# Altium schematic symbol library PCIEx1toMXM3.0.SchLib: 21 symbols
Pins are listed as number, name and electrical type; pins without a type are passive.

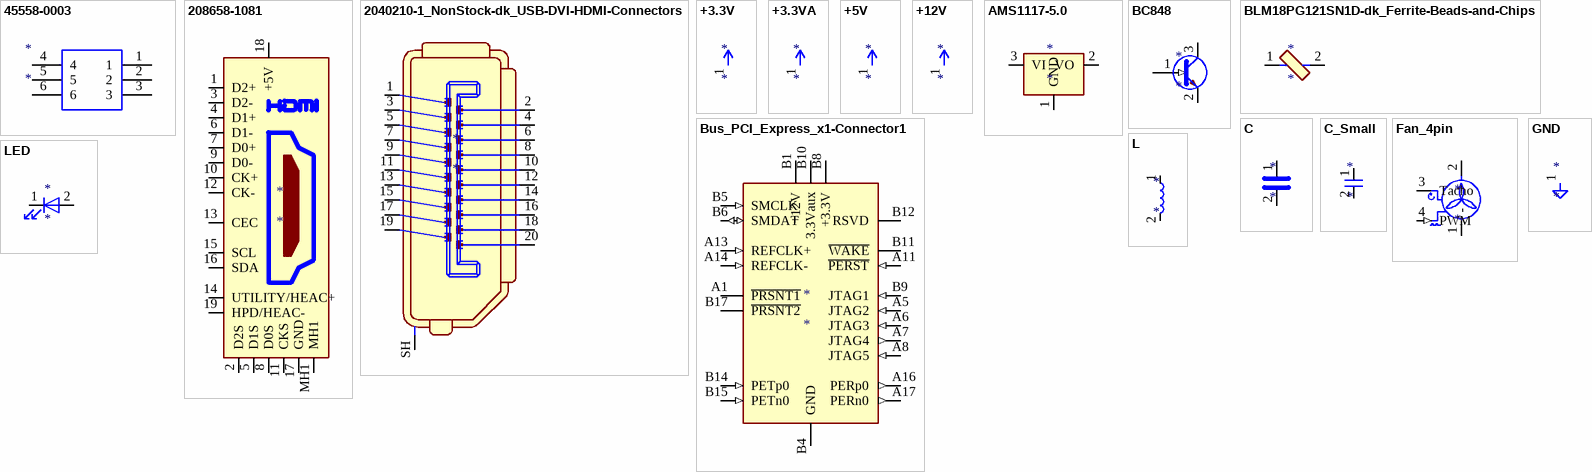
[diagram p0: symbols 45558-0003 to LED]

## 45558-0003
designator *
pins: 1, 2, 3, 4, 5, 6

## 208658-1081
designator *
pins: 1 D2+, 2 D2S (power), 3 D2-, 4 D1+, 5 D1S (power), 6 D1-, 7 D0+, 8 D0S (power), 9 D0-, 10 CK+, 11 CKS (power), 12 CK-, 13 CEC (io), 14 UTILITY/HEAC+, 15 SCL, 16 SDA (io), 17 GND (power), 18 +5V (power), 19 HPD/HEAC-, MH1, MH2 hidden, MH3 hidden, MH4 hidden

## 2040210-1_NonStock-dk_USB-DVI-HDMI-Connectors
designator *
pins: 1, 2, 3, 4, 5, 6, 7, 8, 9, 10, 11, 12, 13, 14, 15, 16, 17, 18, 19, 20, SH

## +3.3V
designator *
pins: 1 +3V3 (power)

## +3.3VA
designator *
pins: 1 +3.3VA (power)

## +5V
designator *
pins: 1 +5V (power)

## +12V
designator *
pins: 1 +12V (power)

## AMS1117-5.0
designator *
pins: 1 GND (power), 2 VO (power), 3 VI (power)

## BC848
designator *
pins: 1 B (in), 2 E, 3 C

## BLM18PG121SN1D-dk_Ferrite-Beads-and-Chips
designator *
pins: 1, 2

## Bus_PCI_Express_x1-Connector1
designator *
pins: A1 ~{PRSNT1}, A2 +12V hidden, A3 +12V hidden, A4 GND hidden, A5 JTAG2 (in), A6 JTAG3 (in), A7 JTAG4 (out), A8 JTAG5 (in), A9 +3.3V hidden, A10 +3.3V hidden, A11 ~{PERST} (in), A12 GND hidden, A13 REFCLK+ (in), A14 REFCLK- (in), A15 GND hidden, A16 PERp0 (out), A17 PERn0 (out), A18 GND hidden, B1 +12V (power), B2 +12V hidden, B3 +12V hidden, B4 GND (power), B5 SMCLK (in), B6 SMDAT (io), B7 GND hidden, B8 +3.3V (power), B9 JTAG1 (in), B10 3.3Vaux (power), B11 ~{WAKE} (oc), B12 RSVD, B13 GND hidden, B14 PETp0 (in), B15 PETn0 (in), B16 GND hidden, B17 ~{PRSNT2}, B18 GND hidden

## C
designator *
pins: 1, 2

## C_Small
designator *
pins: 1, 2

## Fan_4pin
designator *
pins: 1 -, 2 +, 3 Tacho, 4 PWM (in)

## GND
designator *
pins: 1 GND (power)

## L
designator *
pins: 1, 2

## LED
designator *
pins: 1 K, 2 A

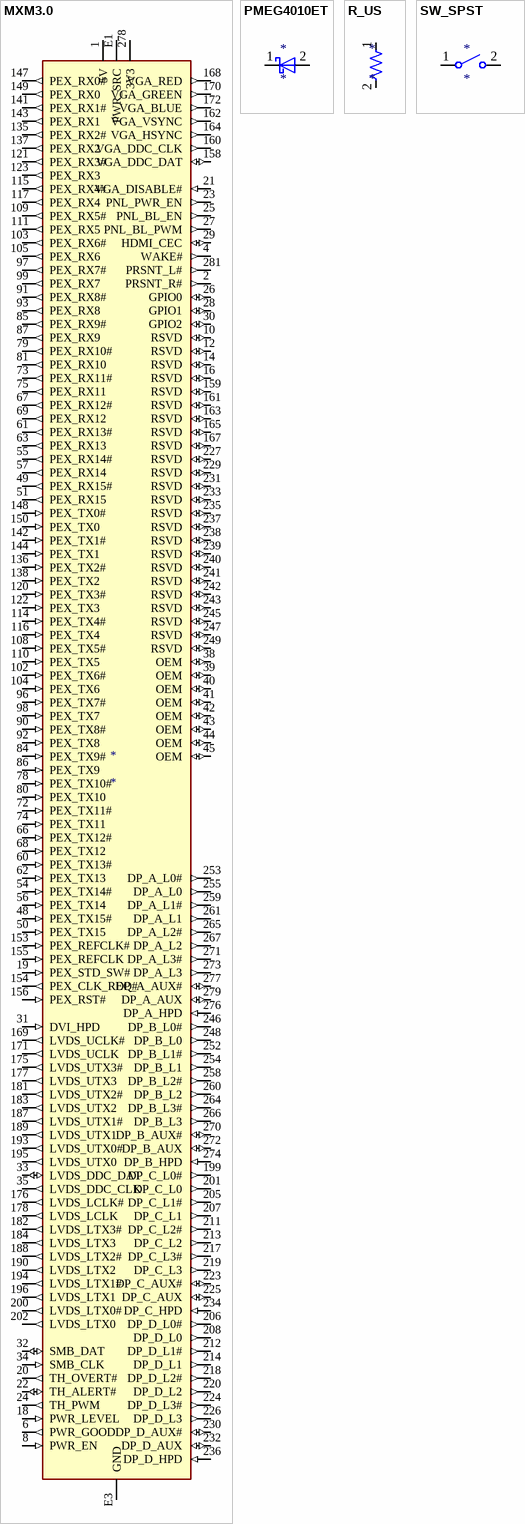
[diagram p1: symbols MXM3.0 to SW_SPST]

## MXM3.0
designator *
pins: 1 5V (power), 2 PRSNT_R# (out), 3 5V hidden, 4 WAKE# (out), 5 5V hidden, 6 PWR_GOOD (out), 7 5V hidden, 8 PWR_EN (in), 9 5V hidden, 10 RSVD (io), 11 GND hidden, 12 RSVD (io), 13 GND hidden, 14 RSVD (io), 15 GND hidden, 16 RSVD (io), 17 GND hidden, 18 PWR_LEVEL (in), 19 PEX_STD_SW# (in), 20 TH_OVERT# (out), 21 VGA_DISABLE# (in), 22 TH_ALERT# (io), 23 PNL_PWR_EN (out), 24 TH_PWM (out), 25 PNL_BL_EN (out), 26 GPIO0 (io), 27 PNL_BL_PWM (out), 28 GPIO1 (io), 29 HDMI_CEC (io), 30 GPIO2 (io), 31 DVI_HPD (in), 32 SMB_DAT (io), 33 LVDS_DDC_DAT (io), 34 SMB_CLK (in), 35 LVDS_DDC_CLK (out), 36 GND hidden, 37 GND hidden, 38 OEM (io), 39 OEM (io), 40 OEM (io), 41 OEM (io), 42 OEM (io), 43 OEM (io), 44 OEM (io), 45 OEM (io), 46 GND hidden, 47 GND hidden, 48 PEX_TX15# (in), 49 PEX_RX15# (out), 50 PEX_TX15 (in), 51 PEX_RX15 (out), 52 GND hidden, 53 GND hidden, 54 PEX_TX14# (in), 55 PEX_RX14# (out), 56 PEX_TX14 (in), 57 PEX_RX14 (out), 58 GND hidden, 59 GND hidden, 60 PEX_TX13# (in), 61 PEX_RX13# (out), 62 PEX_TX13 (in), 63 PEX_RX13 (out), 64 GND hidden, 65 GND hidden, 66 PEX_TX12# (in), 67 PEX_RX12# (out), 68 PEX_TX12 (in), 69 PEX_RX12 (out), 70 GND hidden, 71 GND hidden, 72 PEX_TX11# (in), 73 PEX_RX11# (out), 74 PEX_TX11 (in), 75 PEX_RX11 (out), 76 GND hidden, 77 GND hidden, 78 PEX_TX10# (in), 79 PEX_RX10# (out), 80 PEX_TX10 (in), 81 PEX_RX10 (out), 82 GND hidden, 83 GND hidden, 84 PEX_TX9# (in), 85 PEX_RX9# (out), 86 PEX_TX9 (in), 87 PEX_RX9 (out), 88 GND hidden, 89 GND hidden, 90 PEX_TX8# (in), 91 PEX_RX8# (out), 92 PEX_TX8 (in), 93 PEX_RX8 (out), 94 GND hidden, 95 GND hidden, 96 PEX_TX7# (in), 97 PEX_RX7# (out), 98 PEX_TX7 (in), 99 PEX_RX7 (out), 100 GND hidden, 101 GND hidden, 102 PEX_TX6# (in), 103 PEX_RX6# (out), 104 PEX_TX6 (in), 105 PEX_RX6 (out), 106 GND hidden, 107 GND hidden, 108 PEX_TX5# (in), 109 PEX_RX5# (out), 110 PEX_TX5 (in), 111 PEX_RX5 (out), 112 GND hidden, 113 GND hidden, 114 PEX_TX4# (in), 115 PEX_RX4# (out), 116 PEX_TX4 (in), 117 PEX_RX4 (out), 118 GND hidden, 119 GND hidden, 120 PEX_TX3# (in), 121 PEX_RX3# (out), 122 PEX_TX3 (in), 123 PEX_RX3 (out), 124 GND hidden, 125 GND hidden, 133 GND hidden, 134 GND hidden, 135 PEX_RX2# (out), 136 PEX_TX2# (in), 137 PEX_RX2 (out), 138 PEX_TX2 (in), 139 GND hidden, 140 GND hidden, 141 PEX_RX1# (out), 142 PEX_TX1# (in), 143 PEX_RX1 (out), 144 PEX_TX1 (in), 145 GND hidden, 146 GND hidden, 147 PEX_RX0# (out), 148 PEX_TX0# (in), 149 PEX_RX0 (out), 150 PEX_TX0 (in), 151 GND hidden, 152 GND hidden, 153 PEX_REFCLK# (in), 154 PEX_CLK_REQ# (out), 155 PEX_REFCLK (in), 156 PEX_RST# (in), 157 GND hidden, 158 VGA_DDC_DAT (io), 159 RSVD (io), 160 VGA_DDC_CLK (out), 161 RSVD (io), 162 VGA_VSYNC (out), 163 RSVD (io), 164 VGA_HSYNC (out), 165 RSVD (io), 166 GND hidden, 167 RSVD (io), 168 VGA_RED (out), 169 LVDS_UCLK# (out), 170 VGA_GREEN (out), 171 LVDS_UCLK (out), 172 VGA_BLUE (out), 173 GND hidden, 174 GND hidden, 175 LVDS_UTX3# (out), 176 LVDS_LCLK# (out), 177 LVDS_UTX3 (out), 178 LVDS_LCLK (out), 179 GND hidden, 180 GND hidden, 181 LVDS_UTX2# (out), 182 LVDS_LTX3# (out), 183 LVDS_UTX2 (out), 184 LVDS_LTX3 (out), 185 GND hidden, 186 GND hidden, 187 LVDS_UTX1# (out), 188 LVDS_LTX2# (out), 189 LVDS_UTX1 (out), 190 LVDS_LTX2 (out), 191 GND hidden, 192 GND hidden, 193 LVDS_UTX0# (out), 194 LVDS_LTX1# (out), 195 LVDS_UTX0 (out), 196 LVDS_LTX1 (out), 197 GND hidden, 198 GND hidden, 199 DP_C_L0# (out), 200 LVDS_LTX0# (out), 201 DP_C_L0 (out), 202 LVDS_LTX0 (out), 203 GND hidden, 204 GND hidden, 205 DP_C_L1# (out), 206 DP_D_L0# (out), 207 DP_C_L1 (out), 208 DP_D_L0 (out), 209 GND hidden, 210 GND hidden, 211 DP_C_L2# (out), 212 DP_D_L1# (out), 213 DP_C_L2 (out), 214 DP_D_L1 (out), 215 GND hidden, 216 GND hidden, 217 DP_C_L3# (out), 218 DP_D_L2# (out), 219 DP_C_L3 (out), 220 DP_D_L2 (out), 221 GND hidden, 222 GND hidden, 223 DP_C_AUX# (io), 224 DP_D_L3# (out), 225 DP_C_AUX (io), 226 DP_D_L3 (out), 227 RSVD (io), 228 GND hidden, 229 RSVD (io), 230 DP_D_AUX# (io), 231 RSVD (io), 232 DP_D_AUX (io), 233 RSVD (io), 234 DP_C_HPD (in), 235 RSVD (io), 236 DP_D_HPD (in), 237 RSVD (io), 238 RSVD (io), 239 RSVD (io), 240 RSVD (io), 241 RSVD (io), 242 RSVD (io), 243 RSVD (io), 244 GND hidden, 245 RSVD (io), 246 DP_B_L0# (out), 247 RSVD (io), 248 DP_B_L0 (out), 249 RSVD (io), 250 GND hidden, 251 GND hidden, 252 DP_B_L1# (out), 253 DP_A_L0# (out), 254 DP_B_L1 (out), 255 DP_A_L0 (out), 256 GND hidden, 257 GND hidden, 258 DP_B_L2# (out), 259 DP_A_L1# (out), 260 DP_B_L2 (out), 261 DP_A_L1 (out), 262 GND hidden, 263 GND hidden, 264 DP_B_L3# (out), 265 DP_A_L2# (out), 266 DP_B_L3 (out), 267 DP_A_L2 (out), 268 GND hidden, 269 GND hidden, 270 DP_B_AUX# (io), 271 DP_A_L3# (out), 272 DP_B_AUX (io), 273 DP_A_L3 (out), 274 DP_B_HPD (in), 275 GND hidden, 276 DP_A_HPD (in), 277 DP_A_AUX# (io), 278 3V3 (power), 279 DP_A_AUX (io), 280 3V3 hidden, 281 PRSNT_L# (out), E1 PWR_SRC (power), E2 PWR_SRC hidden, E3 GND (power), E4 GND hidden

## PMEG4010ET
designator *
pins: 1 K, 2 A

## R_US
designator *
pins: 1, 2

## SW_SPST
designator *
pins: 1 A, 2 B